# Altium integrated library Microchip Power Management Battery Management.IntLib: 217 symbols (part 4 of 5)
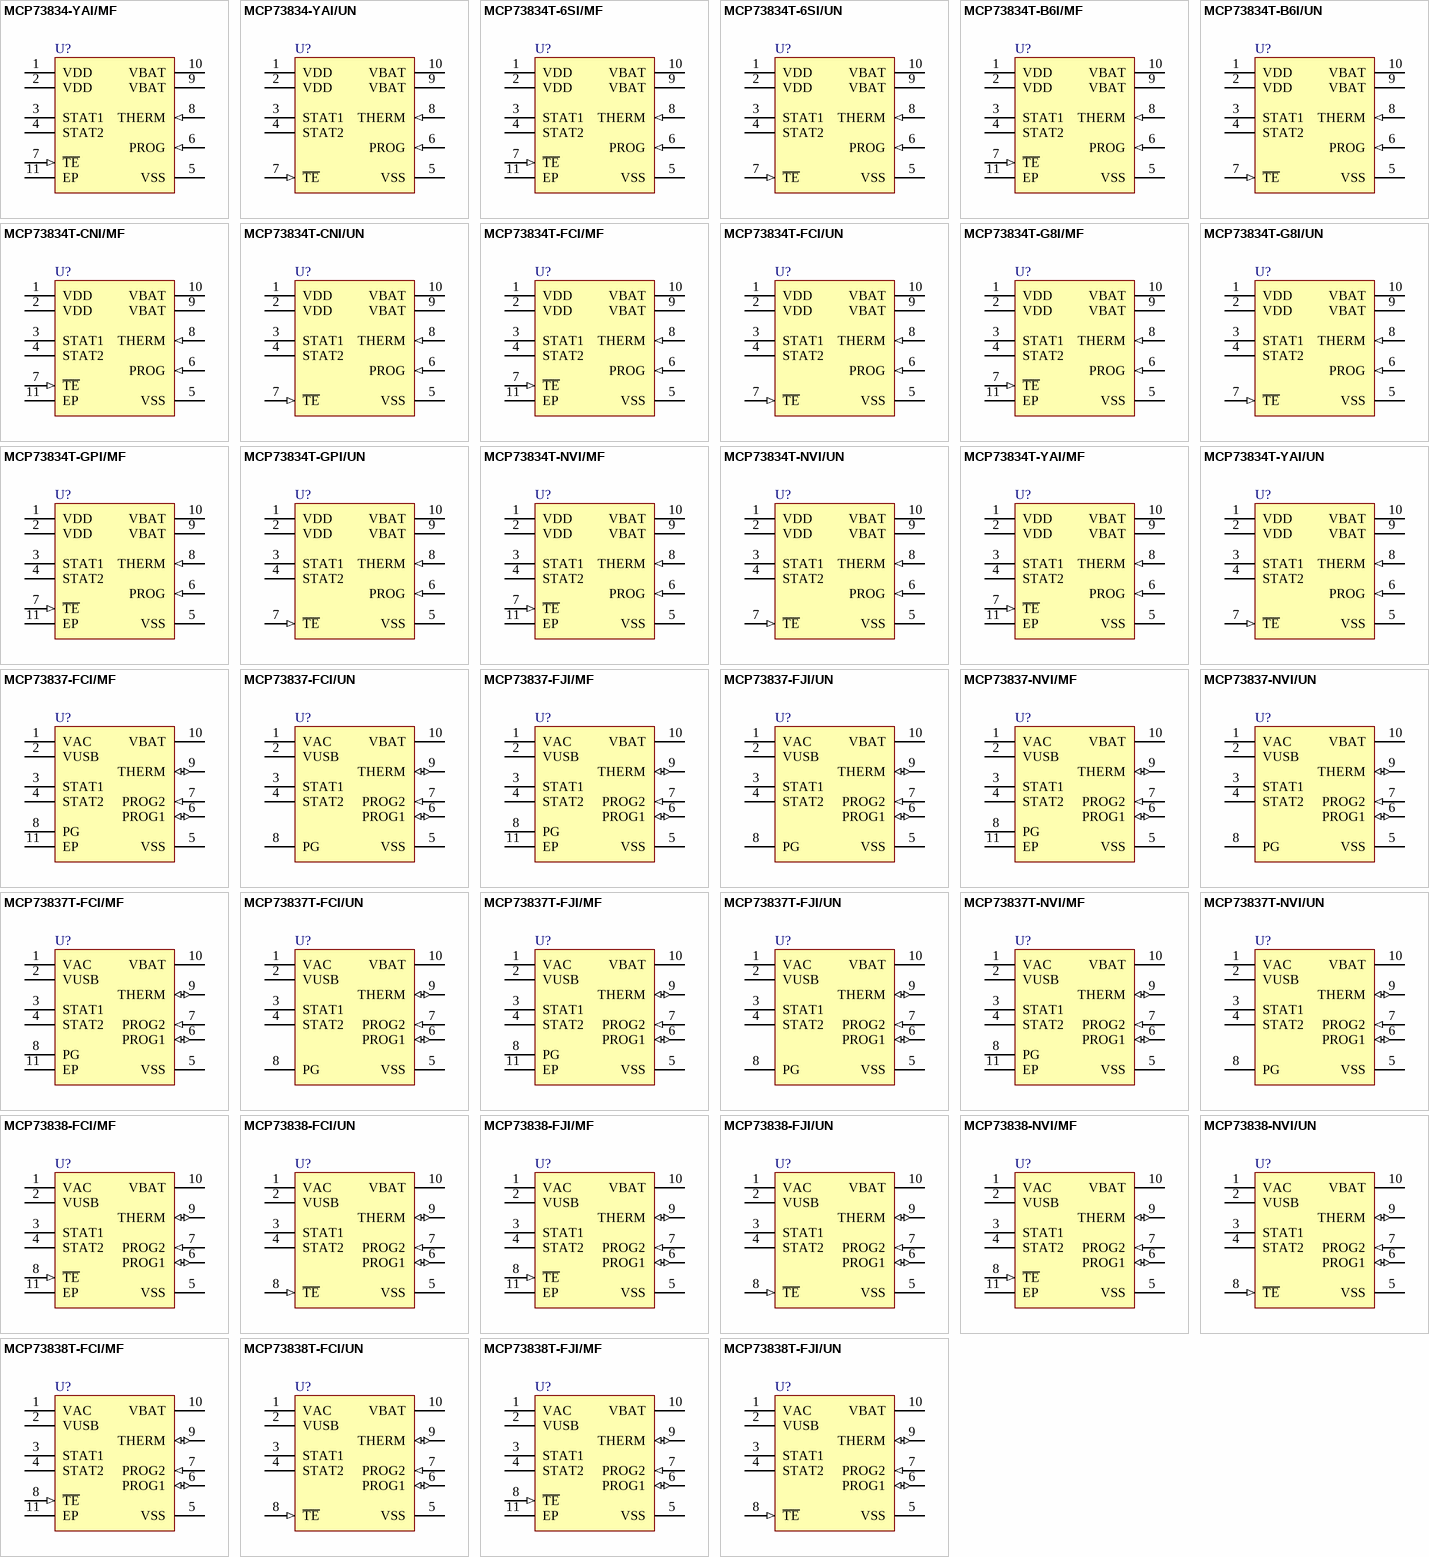
[diagram p9: symbols MCP73834-YAI/MF to MCP73838T-FJI/UN]

## MCP73837T-FCI/MF
designator U?
Stand-Alone Li-Ion/Li-Polymer Battery Charge Management Controller with Autonomous AC-Adapter or USB-Port Source Selection, 4.2V, 10-Pin DFN, Industrial Temperature, Tape and Reel; DatasheetVersion: revA, Nov-2007; PackageVersion: revBB, Aug-2009; PackageReference: DFN-MF10; PackageDescription: 10-Lead Plastic Dual Flat, No Lead Package (MF) - 3x3x0.9mm Body [DFN]; ComponentLink1Description: Manufacturer URL; ComponentLink1URL: http://www.microchip.com/; ComponentLink2Description: Datasheet; ComponentLink2URL: http://ww1.microchip.com/downloads/en/DeviceDoc/22071a.pdf; ComponentLink3Description: Package Specification; ComponentLink3URL: http://www.microchip.com/stellent/groups/techpub_sg/documents/packagingspec/en012702.pdf
footprint DFN-MF10 (SON, 10-Leads, Body 3x3mm, Pitch 0.5mm, Microchip Recommended)
pins: 1 VAC (power), 2 VUSB (power), 3 STAT1 (oc), 4 STAT2 (oc), 5 VSS (power), 6 PROG1 (io), 7 PROG2 (in), 8 PG (oc), 9 THERM (io), 10 VBAT (power), 11 EP (power)

## MCP73837T-FCI/UN
designator U?
Stand-Alone Li-Ion/Li-Polymer Battery Charge Management Controller with Autonomous AC-Adapter or USB-Port Source Selection, 4.2V, 10-Pin MSOP, Industrial Temperature, Tape and Reel; DatasheetVersion: revA, Nov-2007; PackageVersion: revBB, Aug-2009; PackageReference: MSOP-UN10; PackageDescription: 10-Lead Plastic Micro Small Outline Package (UN) [MSOP]; ComponentLink1Description: Manufacturer URL; ComponentLink1URL: http://www.microchip.com/; ComponentLink2Description: Datasheet; ComponentLink2URL: http://ww1.microchip.com/downloads/en/DeviceDoc/22071a.pdf; ComponentLink3Description: Package Specification; ComponentLink3URL: http://www.microchip.com/stellent/groups/techpub_sg/documents/packagingspec/en012702.pdf
footprint MSOP-UN10_N (TSSOP, 10-Leads, Body 3x3mm, Pitch 0.5mm, IPC Medium Density)
footprint MSOP-UN10_L (TSSOP, 10-Leads, Body 3x3mm, Pitch 0.5mm, IPC High Density)
footprint MSOP-UN10_M (TSSOP, 10-Leads, Body 3x3mm, Pitch 0.5mm, IPC Low Density)
pins: 1 VAC (power), 2 VUSB (power), 3 STAT1 (oc), 4 STAT2 (oc), 5 VSS (power), 6 PROG1 (io), 7 PROG2 (in), 8 PG (oc), 9 THERM (io), 10 VBAT (power)

## MCP73837T-FJI/MF
designator U?
Stand-Alone Li-Ion/Li-Polymer Battery Charge Management Controller with Autonomous AC-Adapter or USB-Port Source Selection, 10-Pin DFN, Industrial Temperature, Tape and Reel; DatasheetVersion: revA, Nov-2007; PackageVersion: revBB, Aug-2009; PackageReference: DFN-MF10; PackageDescription: 10-Lead Plastic Dual Flat, No Lead Package (MF) - 3x3x0.9mm Body [DFN]; ComponentLink1Description: Manufacturer URL; ComponentLink1URL: http://www.microchip.com/; ComponentLink2Description: Datasheet; ComponentLink2URL: http://ww1.microchip.com/downloads/en/DeviceDoc/22071a.pdf; ComponentLink3Description: Package Specification; ComponentLink3URL: http://www.microchip.com/stellent/groups/techpub_sg/documents/packagingspec/en012702.pdf
footprint DFN-MF10 (SON, 10-Leads, Body 3x3mm, Pitch 0.5mm, Microchip Recommended)
pins: 1 VAC (power), 2 VUSB (power), 3 STAT1 (oc), 4 STAT2 (oc), 5 VSS (power), 6 PROG1 (io), 7 PROG2 (in), 8 PG (oc), 9 THERM (io), 10 VBAT (power), 11 EP (power)

## MCP73837T-FJI/UN
designator U?
Stand-Alone Li-Ion/Li-Polymer Battery Charge Management Controller with Autonomous AC-Adapter or USB-Port Source Selection, 10-Pin MSOP, Industrial Temperature, Tape and Reel; DatasheetVersion: revA, Nov-2007; PackageVersion: revBB, Aug-2009; PackageReference: MSOP-UN10; PackageDescription: 10-Lead Plastic Micro Small Outline Package (UN) [MSOP]; ComponentLink1Description: Manufacturer URL; ComponentLink1URL: http://www.microchip.com/; ComponentLink2Description: Datasheet; ComponentLink2URL: http://ww1.microchip.com/downloads/en/DeviceDoc/22071a.pdf; ComponentLink3Description: Package Specification; ComponentLink3URL: http://www.microchip.com/stellent/groups/techpub_sg/documents/packagingspec/en012702.pdf
footprint MSOP-UN10_N (TSSOP, 10-Leads, Body 3x3mm, Pitch 0.5mm, IPC Medium Density)
footprint MSOP-UN10_L (TSSOP, 10-Leads, Body 3x3mm, Pitch 0.5mm, IPC High Density)
footprint MSOP-UN10_M (TSSOP, 10-Leads, Body 3x3mm, Pitch 0.5mm, IPC Low Density)
pins: 1 VAC (power), 2 VUSB (power), 3 STAT1 (oc), 4 STAT2 (oc), 5 VSS (power), 6 PROG1 (io), 7 PROG2 (in), 8 PG (oc), 9 THERM (io), 10 VBAT (power)

## MCP73837T-NVI/MF
designator U?
Stand-Alone Li-Ion/Li-Polymer Battery Charge Management Controller with Autonomous AC-Adapter or USB-Port Source Selection, 4.35V, 10-Pin DFN, Industrial Temperature, Tape and Reel; DatasheetVersion: revA, Nov-2007; PackageVersion: revBB, Aug-2009; PackageReference: DFN-MF10; PackageDescription: 10-Lead Plastic Dual Flat, No Lead Package (MF) - 3x3x0.9mm Body [DFN]; ComponentLink1Description: Manufacturer URL; ComponentLink1URL: http://www.microchip.com/; ComponentLink2Description: Datasheet; ComponentLink2URL: http://ww1.microchip.com/downloads/en/DeviceDoc/22071a.pdf; ComponentLink3Description: Package Specification; ComponentLink3URL: http://www.microchip.com/stellent/groups/techpub_sg/documents/packagingspec/en012702.pdf
footprint DFN-MF10 (SON, 10-Leads, Body 3x3mm, Pitch 0.5mm, Microchip Recommended)
pins: 1 VAC (power), 2 VUSB (power), 3 STAT1 (oc), 4 STAT2 (oc), 5 VSS (power), 6 PROG1 (io), 7 PROG2 (in), 8 PG (oc), 9 THERM (io), 10 VBAT (power), 11 EP (power)

## MCP73837T-NVI/UN
designator U?
Stand-Alone Li-Ion/Li-Polymer Battery Charge Management Controller with Autonomous AC-Adapter or USB-Port Source Selection, 4.35V, 10-Pin MSOP, Industrial Temperature, Tape and Reel; DatasheetVersion: revA, Nov-2007; PackageVersion: revBB, Aug-2009; PackageReference: MSOP-UN10; PackageDescription: 10-Lead Plastic Micro Small Outline Package (UN) [MSOP]; ComponentLink1Description: Manufacturer URL; ComponentLink1URL: http://www.microchip.com/; ComponentLink2Description: Datasheet; ComponentLink2URL: http://ww1.microchip.com/downloads/en/DeviceDoc/22071a.pdf; ComponentLink3Description: Package Specification; ComponentLink3URL: http://www.microchip.com/stellent/groups/techpub_sg/documents/packagingspec/en012702.pdf
footprint MSOP-UN10_N (TSSOP, 10-Leads, Body 3x3mm, Pitch 0.5mm, IPC Medium Density)
footprint MSOP-UN10_L (TSSOP, 10-Leads, Body 3x3mm, Pitch 0.5mm, IPC High Density)
footprint MSOP-UN10_M (TSSOP, 10-Leads, Body 3x3mm, Pitch 0.5mm, IPC Low Density)
pins: 1 VAC (power), 2 VUSB (power), 3 STAT1 (oc), 4 STAT2 (oc), 5 VSS (power), 6 PROG1 (io), 7 PROG2 (in), 8 PG (oc), 9 THERM (io), 10 VBAT (power)

## MCP73838-FCI/MF
designator U?
Stand-Alone Li-Ion/Li-Polymer Battery Charge Management Controller with Autonomous AC-Adapter or USB-Port Source Selection, 4.2V, 10-Pin DFN, Industrial Temperature; DatasheetVersion: revA, Nov-2007; PackageVersion: revBB, Aug-2009; PackageReference: DFN-MF10; PackageDescription: 10-Lead Plastic Dual Flat, No Lead Package (MF) - 3x3x0.9mm Body [DFN]; ComponentLink1Description: Manufacturer URL; ComponentLink1URL: http://www.microchip.com/; ComponentLink2Description: Datasheet; ComponentLink2URL: http://ww1.microchip.com/downloads/en/DeviceDoc/22071a.pdf; ComponentLink3Description: Package Specification; ComponentLink3URL: http://www.microchip.com/stellent/groups/techpub_sg/documents/packagingspec/en012702.pdf
footprint DFN-MF10 (SON, 10-Leads, Body 3x3mm, Pitch 0.5mm, Microchip Recommended)
pins: 1 VAC (power), 2 VUSB (power), 3 STAT1 (oc), 4 STAT2 (oc), 5 VSS (power), 6 PROG1 (io), 7 PROG2 (in), 8 ~{TE} (in), 9 THERM (io), 10 VBAT (power), 11 EP (power)

## MCP73838-FCI/UN
designator U?
Stand-Alone Li-Ion/Li-Polymer Battery Charge Management Controller with Autonomous AC-Adapter or USB-Port Source Selection, 4.2V, 10-Pin MSOP, Industrial Temperature; DatasheetVersion: revA, Nov-2007; PackageVersion: revBB, Aug-2009; PackageReference: MSOP-UN10; PackageDescription: 10-Lead Plastic Micro Small Outline Package (UN) [MSOP]; ComponentLink1Description: Manufacturer URL; ComponentLink1URL: http://www.microchip.com/; ComponentLink2Description: Datasheet; ComponentLink2URL: http://ww1.microchip.com/downloads/en/DeviceDoc/22071a.pdf; ComponentLink3Description: Package Specification; ComponentLink3URL: http://www.microchip.com/stellent/groups/techpub_sg/documents/packagingspec/en012702.pdf
footprint MSOP-UN10_N (TSSOP, 10-Leads, Body 3x3mm, Pitch 0.5mm, IPC Medium Density)
footprint MSOP-UN10_L (TSSOP, 10-Leads, Body 3x3mm, Pitch 0.5mm, IPC High Density)
footprint MSOP-UN10_M (TSSOP, 10-Leads, Body 3x3mm, Pitch 0.5mm, IPC Low Density)
pins: 1 VAC (power), 2 VUSB (power), 3 STAT1 (oc), 4 STAT2 (oc), 5 VSS (power), 6 PROG1 (io), 7 PROG2 (in), 8 ~{TE} (in), 9 THERM (io), 10 VBAT (power)

## MCP73838-FJI/MF
designator U?
Stand-Alone Li-Ion/Li-Polymer Battery Charge Management Controller with Autonomous AC-Adapter or USB-Port Source Selection, 10-Pin DFN, Industrial Temperature; DatasheetVersion: revA, Nov-2007; PackageVersion: revBB, Aug-2009; PackageReference: DFN-MF10; PackageDescription: 10-Lead Plastic Dual Flat, No Lead Package (MF) - 3x3x0.9mm Body [DFN]; ComponentLink1Description: Manufacturer URL; ComponentLink1URL: http://www.microchip.com/; ComponentLink2Description: Datasheet; ComponentLink2URL: http://ww1.microchip.com/downloads/en/DeviceDoc/22071a.pdf; ComponentLink3Description: Package Specification; ComponentLink3URL: http://www.microchip.com/stellent/groups/techpub_sg/documents/packagingspec/en012702.pdf
footprint DFN-MF10 (SON, 10-Leads, Body 3x3mm, Pitch 0.5mm, Microchip Recommended)
pins: 1 VAC (power), 2 VUSB (power), 3 STAT1 (oc), 4 STAT2 (oc), 5 VSS (power), 6 PROG1 (io), 7 PROG2 (in), 8 ~{TE} (in), 9 THERM (io), 10 VBAT (power), 11 EP (power)

## MCP73838-FJI/UN
designator U?
Stand-Alone Li-Ion/Li-Polymer Battery Charge Management Controller with Autonomous AC-Adapter or USB-Port Source Selection, 10-Pin MSOP, Industrial Temperature; DatasheetVersion: revA, Nov-2007; PackageVersion: revBB, Aug-2009; PackageReference: MSOP-UN10; PackageDescription: 10-Lead Plastic Micro Small Outline Package (UN) [MSOP]; ComponentLink1Description: Manufacturer URL; ComponentLink1URL: http://www.microchip.com/; ComponentLink2Description: Datasheet; ComponentLink2URL: http://ww1.microchip.com/downloads/en/DeviceDoc/22071a.pdf; ComponentLink3Description: Package Specification; ComponentLink3URL: http://www.microchip.com/stellent/groups/techpub_sg/documents/packagingspec/en012702.pdf
footprint MSOP-UN10_N (TSSOP, 10-Leads, Body 3x3mm, Pitch 0.5mm, IPC Medium Density)
footprint MSOP-UN10_L (TSSOP, 10-Leads, Body 3x3mm, Pitch 0.5mm, IPC High Density)
footprint MSOP-UN10_M (TSSOP, 10-Leads, Body 3x3mm, Pitch 0.5mm, IPC Low Density)
pins: 1 VAC (power), 2 VUSB (power), 3 STAT1 (oc), 4 STAT2 (oc), 5 VSS (power), 6 PROG1 (io), 7 PROG2 (in), 8 ~{TE} (in), 9 THERM (io), 10 VBAT (power)

## MCP73838-NVI/MF
designator U?
Stand-Alone Li-Ion/Li-Polymer Battery Charge Management Controller with Autonomous AC-Adapter or USB-Port Source Selection, 4.35V, 10-Pin DFN, Industrial Temperature; DatasheetVersion: revA, Nov-2007; PackageVersion: revBB, Aug-2009; PackageReference: DFN-MF10; PackageDescription: 10-Lead Plastic Dual Flat, No Lead Package (MF) - 3x3x0.9mm Body [DFN]; ComponentLink1Description: Manufacturer URL; ComponentLink1URL: http://www.microchip.com/; ComponentLink2Description: Datasheet; ComponentLink2URL: http://ww1.microchip.com/downloads/en/DeviceDoc/22071a.pdf; ComponentLink3Description: Package Specification; ComponentLink3URL: http://www.microchip.com/stellent/groups/techpub_sg/documents/packagingspec/en012702.pdf
footprint DFN-MF10 (SON, 10-Leads, Body 3x3mm, Pitch 0.5mm, Microchip Recommended)
pins: 1 VAC (power), 2 VUSB (power), 3 STAT1 (oc), 4 STAT2 (oc), 5 VSS (power), 6 PROG1 (io), 7 PROG2 (in), 8 ~{TE} (in), 9 THERM (io), 10 VBAT (power), 11 EP (power)

## MCP73838-NVI/UN
designator U?
Stand-Alone Li-Ion/Li-Polymer Battery Charge Management Controller with Autonomous AC-Adapter or USB-Port Source Selection, 4.35V, 10-Pin MSOP, Industrial Temperature; DatasheetVersion: revA, Nov-2007; PackageVersion: revBB, Aug-2009; PackageReference: MSOP-UN10; PackageDescription: 10-Lead Plastic Micro Small Outline Package (UN) [MSOP]; ComponentLink1Description: Manufacturer URL; ComponentLink1URL: http://www.microchip.com/; ComponentLink2Description: Datasheet; ComponentLink2URL: http://ww1.microchip.com/downloads/en/DeviceDoc/22071a.pdf; ComponentLink3Description: Package Specification; ComponentLink3URL: http://www.microchip.com/stellent/groups/techpub_sg/documents/packagingspec/en012702.pdf
footprint MSOP-UN10_N (TSSOP, 10-Leads, Body 3x3mm, Pitch 0.5mm, IPC Medium Density)
footprint MSOP-UN10_L (TSSOP, 10-Leads, Body 3x3mm, Pitch 0.5mm, IPC High Density)
footprint MSOP-UN10_M (TSSOP, 10-Leads, Body 3x3mm, Pitch 0.5mm, IPC Low Density)
pins: 1 VAC (power), 2 VUSB (power), 3 STAT1 (oc), 4 STAT2 (oc), 5 VSS (power), 6 PROG1 (io), 7 PROG2 (in), 8 ~{TE} (in), 9 THERM (io), 10 VBAT (power)

## MCP73838T-FCI/MF
designator U?
Stand-Alone Li-Ion/Li-Polymer Battery Charge Management Controller with Autonomous AC-Adapter or USB-Port Source Selection, 4.2V, 10-Pin DFN, Industrial Temperature, Tape and Reel; DatasheetVersion: revA, Nov-2007; PackageVersion: revBB, Aug-2009; PackageReference: DFN-MF10; PackageDescription: 10-Lead Plastic Dual Flat, No Lead Package (MF) - 3x3x0.9mm Body [DFN]; ComponentLink1Description: Manufacturer URL; ComponentLink1URL: http://www.microchip.com/; ComponentLink2Description: Datasheet; ComponentLink2URL: http://ww1.microchip.com/downloads/en/DeviceDoc/22071a.pdf; ComponentLink3Description: Package Specification; ComponentLink3URL: http://www.microchip.com/stellent/groups/techpub_sg/documents/packagingspec/en012702.pdf
footprint DFN-MF10 (SON, 10-Leads, Body 3x3mm, Pitch 0.5mm, Microchip Recommended)
pins: 1 VAC (power), 2 VUSB (power), 3 STAT1 (oc), 4 STAT2 (oc), 5 VSS (power), 6 PROG1 (io), 7 PROG2 (in), 8 ~{TE} (in), 9 THERM (io), 10 VBAT (power), 11 EP (power)

## MCP73838T-FCI/UN
designator U?
Stand-Alone Li-Ion/Li-Polymer Battery Charge Management Controller with Autonomous AC-Adapter or USB-Port Source Selection, 4.2V, 10-Pin MSOP, Industrial Temperature, Tape and Reel; DatasheetVersion: revA, Nov-2007; PackageVersion: revBB, Aug-2009; PackageReference: MSOP-UN10; PackageDescription: 10-Lead Plastic Micro Small Outline Package (UN) [MSOP]; ComponentLink1Description: Manufacturer URL; ComponentLink1URL: http://www.microchip.com/; ComponentLink2Description: Datasheet; ComponentLink2URL: http://ww1.microchip.com/downloads/en/DeviceDoc/22071a.pdf; ComponentLink3Description: Package Specification; ComponentLink3URL: http://www.microchip.com/stellent/groups/techpub_sg/documents/packagingspec/en012702.pdf
footprint MSOP-UN10_N (TSSOP, 10-Leads, Body 3x3mm, Pitch 0.5mm, IPC Medium Density)
footprint MSOP-UN10_L (TSSOP, 10-Leads, Body 3x3mm, Pitch 0.5mm, IPC High Density)
footprint MSOP-UN10_M (TSSOP, 10-Leads, Body 3x3mm, Pitch 0.5mm, IPC Low Density)
pins: 1 VAC (power), 2 VUSB (power), 3 STAT1 (oc), 4 STAT2 (oc), 5 VSS (power), 6 PROG1 (io), 7 PROG2 (in), 8 ~{TE} (in), 9 THERM (io), 10 VBAT (power)

## MCP73838T-FJI/MF
designator U?
Stand-Alone Li-Ion/Li-Polymer Battery Charge Management Controller with Autonomous AC-Adapter or USB-Port Source Selection, 10-Pin DFN, Industrial Temperature, Tape and Reel; DatasheetVersion: revA, Nov-2007; PackageVersion: revBB, Aug-2009; PackageReference: DFN-MF10; PackageDescription: 10-Lead Plastic Dual Flat, No Lead Package (MF) - 3x3x0.9mm Body [DFN]; ComponentLink1Description: Manufacturer URL; ComponentLink1URL: http://www.microchip.com/; ComponentLink2Description: Datasheet; ComponentLink2URL: http://ww1.microchip.com/downloads/en/DeviceDoc/22071a.pdf; ComponentLink3Description: Package Specification; ComponentLink3URL: http://www.microchip.com/stellent/groups/techpub_sg/documents/packagingspec/en012702.pdf
footprint DFN-MF10 (SON, 10-Leads, Body 3x3mm, Pitch 0.5mm, Microchip Recommended)
pins: 1 VAC (power), 2 VUSB (power), 3 STAT1 (oc), 4 STAT2 (oc), 5 VSS (power), 6 PROG1 (io), 7 PROG2 (in), 8 ~{TE} (in), 9 THERM (io), 10 VBAT (power), 11 EP (power)

## MCP73838T-FJI/UN
designator U?
Stand-Alone Li-Ion/Li-Polymer Battery Charge Management Controller with Autonomous AC-Adapter or USB-Port Source Selection, 10-Pin MSOP, Industrial Temperature, Tape and Reel; DatasheetVersion: revA, Nov-2007; PackageVersion: revBB, Aug-2009; PackageReference: MSOP-UN10; PackageDescription: 10-Lead Plastic Micro Small Outline Package (UN) [MSOP]; ComponentLink1Description: Manufacturer URL; ComponentLink1URL: http://www.microchip.com/; ComponentLink2Description: Datasheet; ComponentLink2URL: http://ww1.microchip.com/downloads/en/DeviceDoc/22071a.pdf; ComponentLink3Description: Package Specification; ComponentLink3URL: http://www.microchip.com/stellent/groups/techpub_sg/documents/packagingspec/en012702.pdf
footprint MSOP-UN10_N (TSSOP, 10-Leads, Body 3x3mm, Pitch 0.5mm, IPC Medium Density)
footprint MSOP-UN10_L (TSSOP, 10-Leads, Body 3x3mm, Pitch 0.5mm, IPC High Density)
footprint MSOP-UN10_M (TSSOP, 10-Leads, Body 3x3mm, Pitch 0.5mm, IPC Low Density)
pins: 1 VAC (power), 2 VUSB (power), 3 STAT1 (oc), 4 STAT2 (oc), 5 VSS (power), 6 PROG1 (io), 7 PROG2 (in), 8 ~{TE} (in), 9 THERM (io), 10 VBAT (power)

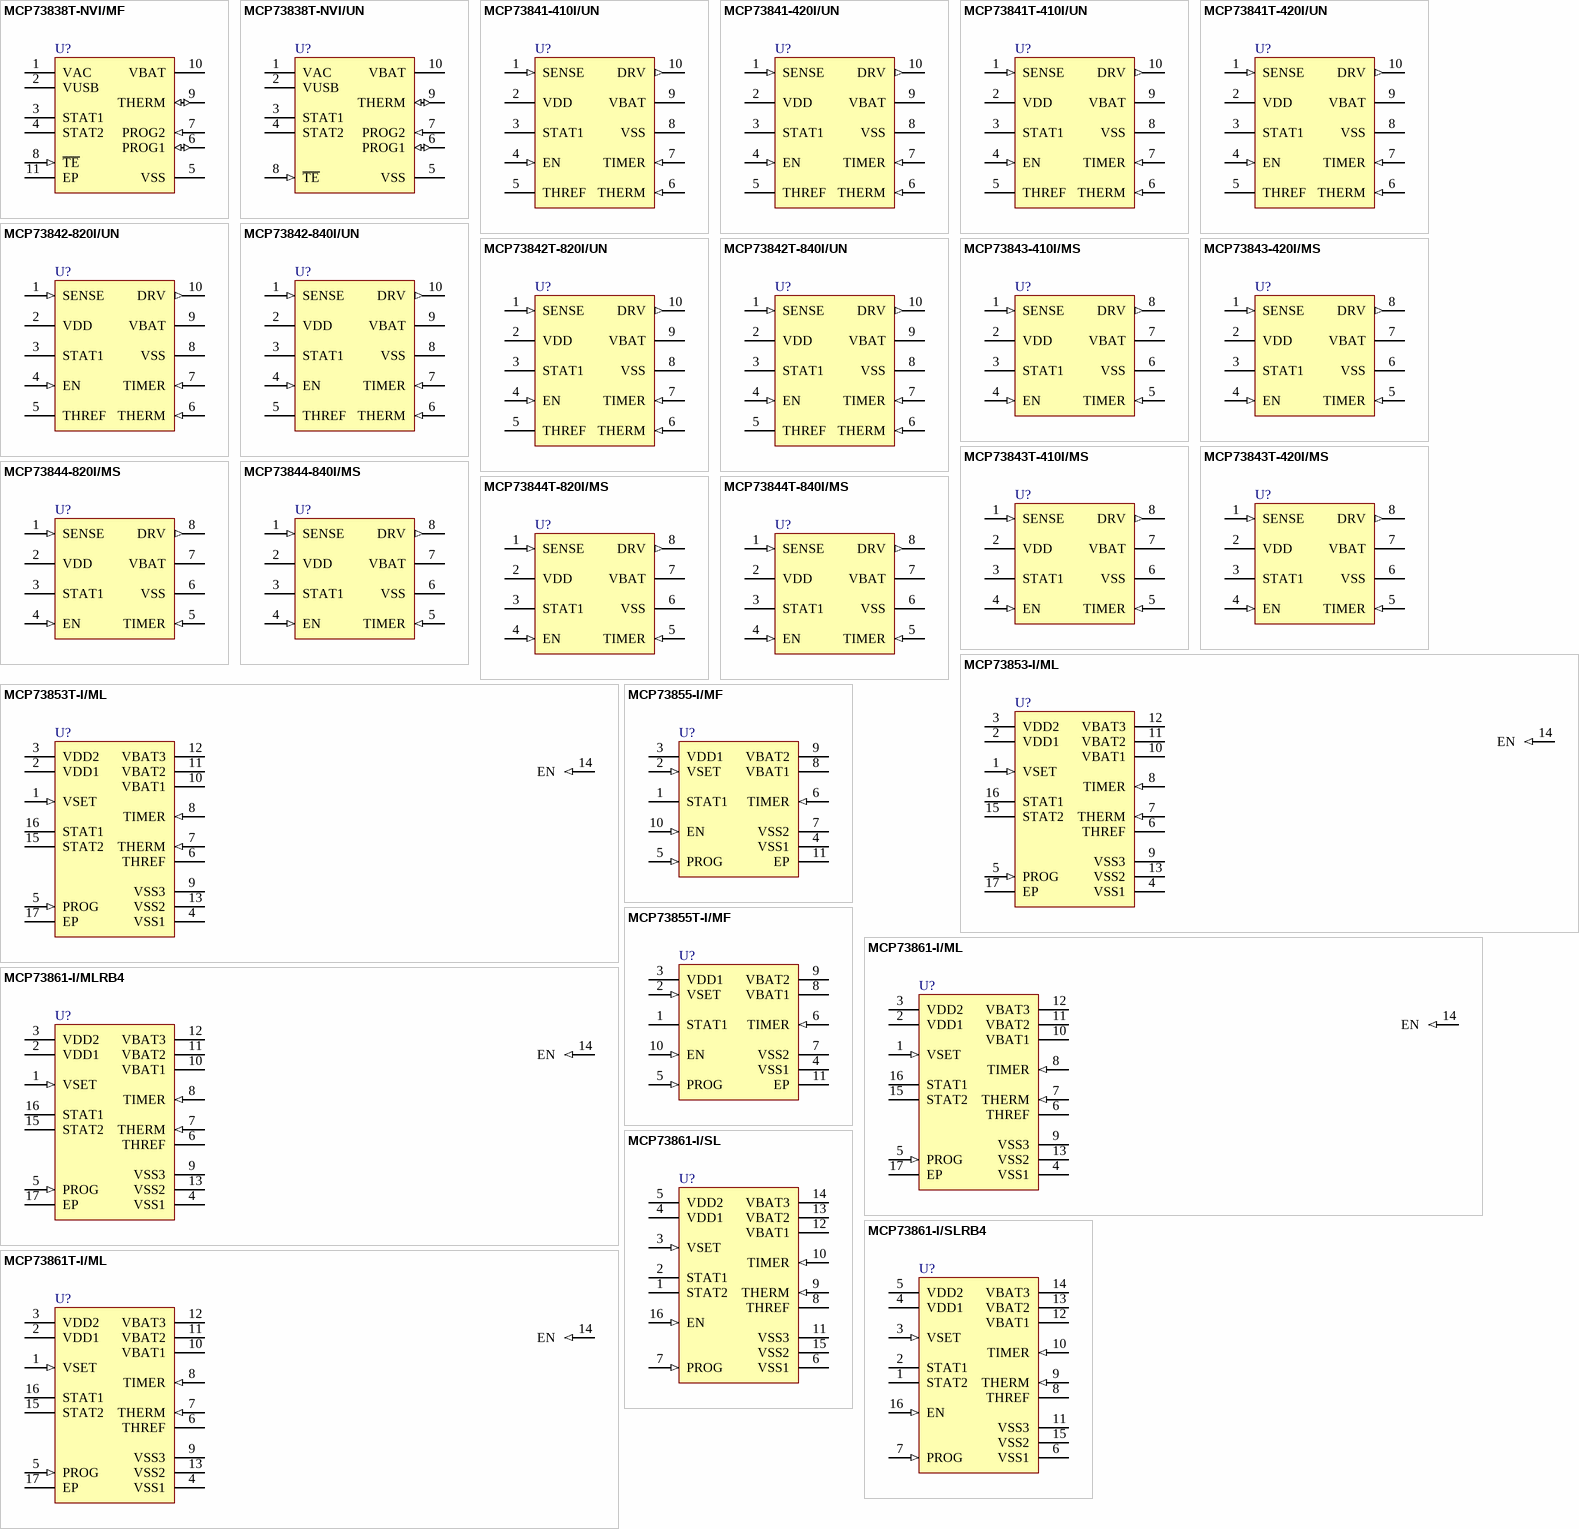
[diagram p4: symbols MCP73838T-NVI/MF to MCP73861T-I/ML]

## MCP73838T-NVI/MF
designator U?
Stand-Alone Li-Ion/Li-Polymer Battery Charge Management Controller with Autonomous AC-Adapter or USB-Port Source Selection, 4.35V, 10-Pin DFN, Industrial Temperature, Tape and Reel; DatasheetVersion: revA, Nov-2007; PackageVersion: revBB, Aug-2009; PackageReference: DFN-MF10; PackageDescription: 10-Lead Plastic Dual Flat, No Lead Package (MF) - 3x3x0.9mm Body [DFN]; ComponentLink1Description: Manufacturer URL; ComponentLink1URL: http://www.microchip.com/; ComponentLink2Description: Datasheet; ComponentLink2URL: http://ww1.microchip.com/downloads/en/DeviceDoc/22071a.pdf; ComponentLink3Description: Package Specification; ComponentLink3URL: http://www.microchip.com/stellent/groups/techpub_sg/documents/packagingspec/en012702.pdf
footprint DFN-MF10 (SON, 10-Leads, Body 3x3mm, Pitch 0.5mm, Microchip Recommended)
pins: 1 VAC (power), 2 VUSB (power), 3 STAT1 (oc), 4 STAT2 (oc), 5 VSS (power), 6 PROG1 (io), 7 PROG2 (in), 8 ~{TE} (in), 9 THERM (io), 10 VBAT (power), 11 EP (power)

## MCP73838T-NVI/UN
designator U?
Stand-Alone Li-Ion/Li-Polymer Battery Charge Management Controller with Autonomous AC-Adapter or USB-Port Source Selection, 4.35V, 10-Pin MSOP, Industrial Temperature, Tape and Reel; DatasheetVersion: revA, Nov-2007; PackageVersion: revBB, Aug-2009; PackageReference: MSOP-UN10; PackageDescription: 10-Lead Plastic Micro Small Outline Package (UN) [MSOP]; ComponentLink1Description: Manufacturer URL; ComponentLink1URL: http://www.microchip.com/; ComponentLink2Description: Datasheet; ComponentLink2URL: http://ww1.microchip.com/downloads/en/DeviceDoc/22071a.pdf; ComponentLink3Description: Package Specification; ComponentLink3URL: http://www.microchip.com/stellent/groups/techpub_sg/documents/packagingspec/en012702.pdf
footprint MSOP-UN10_N (TSSOP, 10-Leads, Body 3x3mm, Pitch 0.5mm, IPC Medium Density)
footprint MSOP-UN10_L (TSSOP, 10-Leads, Body 3x3mm, Pitch 0.5mm, IPC High Density)
footprint MSOP-UN10_M (TSSOP, 10-Leads, Body 3x3mm, Pitch 0.5mm, IPC Low Density)
pins: 1 VAC (power), 2 VUSB (power), 3 STAT1 (oc), 4 STAT2 (oc), 5 VSS (power), 6 PROG1 (io), 7 PROG2 (in), 8 ~{TE} (in), 9 THERM (io), 10 VBAT (power)

## MCP73841-410I/UN
designator U?
Single-Cell Li-Ion/Li-Polymer Charge Management Controller with Temperature Monitor, 4.1V, 10-Pin MSOP, Industrial Temperature; DatasheetVersion: revC, Sep-2004; PackageVersion: revBB, Aug-2009; PackageReference: MSOP-UN10; PackageDescription: 10-Lead Plastic Micro Small Outline Package (UN) [MSOP]; ComponentLink1Description: Manufacturer URL; ComponentLink1URL: http://www.microchip.com/; ComponentLink2Description: Datasheet; ComponentLink2URL: http://ww1.microchip.com/downloads/en/DeviceDoc/21823c.pdf; ComponentLink3Description: Package Specification; ComponentLink3URL: http://www.microchip.com/stellent/groups/techpub_sg/documents/packagingspec/en012702.pdf
footprint MSOP-UN10_N (TSSOP, 10-Leads, Body 3x3mm, Pitch 0.5mm, IPC Medium Density)
footprint MSOP-UN10_L (TSSOP, 10-Leads, Body 3x3mm, Pitch 0.5mm, IPC High Density)
footprint MSOP-UN10_M (TSSOP, 10-Leads, Body 3x3mm, Pitch 0.5mm, IPC Low Density)
pins: 1 SENSE (in), 2 VDD (power), 3 STAT1 (oc), 4 EN (in), 5 THREF (power), 6 THERM (in), 7 TIMER (in), 8 VSS (power), 9 VBAT (power), 10 DRV (out)

## MCP73841-420I/UN
designator U?
Single-Cell Li-Ion/Li-Polymer Charge Management Controller with Temperature Monitor, 4.2V, 10-Pin MSOP, Industrial Temperature; DatasheetVersion: revC, Sep-2004; PackageVersion: revBB, Aug-2009; PackageReference: MSOP-UN10; PackageDescription: 10-Lead Plastic Micro Small Outline Package (UN) [MSOP]; ComponentLink1Description: Manufacturer URL; ComponentLink1URL: http://www.microchip.com/; ComponentLink2Description: Datasheet; ComponentLink2URL: http://ww1.microchip.com/downloads/en/DeviceDoc/21823c.pdf; ComponentLink3Description: Package Specification; ComponentLink3URL: http://www.microchip.com/stellent/groups/techpub_sg/documents/packagingspec/en012702.pdf
footprint MSOP-UN10_N (TSSOP, 10-Leads, Body 3x3mm, Pitch 0.5mm, IPC Medium Density)
footprint MSOP-UN10_L (TSSOP, 10-Leads, Body 3x3mm, Pitch 0.5mm, IPC High Density)
footprint MSOP-UN10_M (TSSOP, 10-Leads, Body 3x3mm, Pitch 0.5mm, IPC Low Density)
pins: 1 SENSE (in), 2 VDD (power), 3 STAT1 (oc), 4 EN (in), 5 THREF (power), 6 THERM (in), 7 TIMER (in), 8 VSS (power), 9 VBAT (power), 10 DRV (out)

## MCP73841T-410I/UN
designator U?
Single-Cell Li-Ion/Li-Polymer Charge Management Controller with Temperature Monitor, 4.1V, 10-Pin MSOP, Industrial Temperature, Tape and Reel; DatasheetVersion: revC, Sep-2004; PackageVersion: revBB, Aug-2009; PackageReference: MSOP-UN10; PackageDescription: 10-Lead Plastic Micro Small Outline Package (UN) [MSOP]; ComponentLink1Description: Manufacturer URL; ComponentLink1URL: http://www.microchip.com/; ComponentLink2Description: Datasheet; ComponentLink2URL: http://ww1.microchip.com/downloads/en/DeviceDoc/21823c.pdf; ComponentLink3Description: Package Specification; ComponentLink3URL: http://www.microchip.com/stellent/groups/techpub_sg/documents/packagingspec/en012702.pdf
footprint MSOP-UN10_N (TSSOP, 10-Leads, Body 3x3mm, Pitch 0.5mm, IPC Medium Density)
footprint MSOP-UN10_L (TSSOP, 10-Leads, Body 3x3mm, Pitch 0.5mm, IPC High Density)
footprint MSOP-UN10_M (TSSOP, 10-Leads, Body 3x3mm, Pitch 0.5mm, IPC Low Density)
pins: 1 SENSE (in), 2 VDD (power), 3 STAT1 (oc), 4 EN (in), 5 THREF (power), 6 THERM (in), 7 TIMER (in), 8 VSS (power), 9 VBAT (power), 10 DRV (out)

## MCP73841T-420I/UN
designator U?
Single-Cell Li-Ion/Li-Polymer Charge Management Controller with Temperature Monitor, 4.2V, 10-Pin MSOP, Industrial Temperature, Tape and Reel; DatasheetVersion: revC, Sep-2004; PackageVersion: revBB, Aug-2009; PackageReference: MSOP-UN10; PackageDescription: 10-Lead Plastic Micro Small Outline Package (UN) [MSOP]; ComponentLink1Description: Manufacturer URL; ComponentLink1URL: http://www.microchip.com/; ComponentLink2Description: Datasheet; ComponentLink2URL: http://ww1.microchip.com/downloads/en/DeviceDoc/21823c.pdf; ComponentLink3Description: Package Specification; ComponentLink3URL: http://www.microchip.com/stellent/groups/techpub_sg/documents/packagingspec/en012702.pdf
footprint MSOP-UN10_N (TSSOP, 10-Leads, Body 3x3mm, Pitch 0.5mm, IPC Medium Density)
footprint MSOP-UN10_L (TSSOP, 10-Leads, Body 3x3mm, Pitch 0.5mm, IPC High Density)
footprint MSOP-UN10_M (TSSOP, 10-Leads, Body 3x3mm, Pitch 0.5mm, IPC Low Density)
pins: 1 SENSE (in), 2 VDD (power), 3 STAT1 (oc), 4 EN (in), 5 THREF (power), 6 THERM (in), 7 TIMER (in), 8 VSS (power), 9 VBAT (power), 10 DRV (out)

## MCP73842-820I/UN
designator U?
Dual Series cell Li-Ion/Li-Polymer Charge Management Controller with Temperature Monitor, 8.2V, 10-Pin MSOP, Industrial Temperature; DatasheetVersion: revC, Sep-2004; PackageVersion: revBB, Aug-2009; PackageReference: MSOP-UN10; PackageDescription: 10-Lead Plastic Micro Small Outline Package (UN) [MSOP]; ComponentLink1Description: Manufacturer URL; ComponentLink1URL: http://www.microchip.com/; ComponentLink2Description: Datasheet; ComponentLink2URL: http://ww1.microchip.com/downloads/en/DeviceDoc/21823c.pdf; ComponentLink3Description: Package Specification; ComponentLink3URL: http://www.microchip.com/stellent/groups/techpub_sg/documents/packagingspec/en012702.pdf
footprint MSOP-UN10_N (TSSOP, 10-Leads, Body 3x3mm, Pitch 0.5mm, IPC Medium Density)
footprint MSOP-UN10_L (TSSOP, 10-Leads, Body 3x3mm, Pitch 0.5mm, IPC High Density)
footprint MSOP-UN10_M (TSSOP, 10-Leads, Body 3x3mm, Pitch 0.5mm, IPC Low Density)
pins: 1 SENSE (in), 2 VDD (power), 3 STAT1 (oc), 4 EN (in), 5 THREF (power), 6 THERM (in), 7 TIMER (in), 8 VSS (power), 9 VBAT (power), 10 DRV (out)

## MCP73842-840I/UN
designator U?
Dual Series cell Li-Ion/Li-Polymer Charge Management Controller with Temperature Monitor, 8.4V, 10-Pin MSOP, Industrial Temperature; DatasheetVersion: revC, Sep-2004; PackageVersion: revBB, Aug-2009; PackageReference: MSOP-UN10; PackageDescription: 10-Lead Plastic Micro Small Outline Package (UN) [MSOP]; ComponentLink1Description: Manufacturer URL; ComponentLink1URL: http://www.microchip.com/; ComponentLink2Description: Datasheet; ComponentLink2URL: http://ww1.microchip.com/downloads/en/DeviceDoc/21823c.pdf; ComponentLink3Description: Package Specification; ComponentLink3URL: http://www.microchip.com/stellent/groups/techpub_sg/documents/packagingspec/en012702.pdf
footprint MSOP-UN10_N (TSSOP, 10-Leads, Body 3x3mm, Pitch 0.5mm, IPC Medium Density)
footprint MSOP-UN10_L (TSSOP, 10-Leads, Body 3x3mm, Pitch 0.5mm, IPC High Density)
footprint MSOP-UN10_M (TSSOP, 10-Leads, Body 3x3mm, Pitch 0.5mm, IPC Low Density)
pins: 1 SENSE (in), 2 VDD (power), 3 STAT1 (oc), 4 EN (in), 5 THREF (power), 6 THERM (in), 7 TIMER (in), 8 VSS (power), 9 VBAT (power), 10 DRV (out)

## MCP73842T-820I/UN
designator U?
Dual Series cell Li-Ion/Li-Polymer Charge Management Controller with Temperature Monitor, 8.2V, 10-Pin MSOP, Industrial Temperature, Tape and Reel; DatasheetVersion: revC, Sep-2004; PackageVersion: revBB, Aug-2009; PackageReference: MSOP-UN10; PackageDescription: 10-Lead Plastic Micro Small Outline Package (UN) [MSOP]; ComponentLink1Description: Manufacturer URL; ComponentLink1URL: http://www.microchip.com/; ComponentLink2Description: Datasheet; ComponentLink2URL: http://ww1.microchip.com/downloads/en/DeviceDoc/21823c.pdf; ComponentLink3Description: Package Specification; ComponentLink3URL: http://www.microchip.com/stellent/groups/techpub_sg/documents/packagingspec/en012702.pdf
footprint MSOP-UN10_N (TSSOP, 10-Leads, Body 3x3mm, Pitch 0.5mm, IPC Medium Density)
footprint MSOP-UN10_L (TSSOP, 10-Leads, Body 3x3mm, Pitch 0.5mm, IPC High Density)
footprint MSOP-UN10_M (TSSOP, 10-Leads, Body 3x3mm, Pitch 0.5mm, IPC Low Density)
pins: 1 SENSE (in), 2 VDD (power), 3 STAT1 (oc), 4 EN (in), 5 THREF (power), 6 THERM (in), 7 TIMER (in), 8 VSS (power), 9 VBAT (power), 10 DRV (out)

## MCP73842T-840I/UN
designator U?
Dual Series cell Li-Ion/Li-Polymer Charge Management Controller with Temperature Monitor, 8.4V, 10-Pin MSOP, Industrial Temperature, Tape and Reel; DatasheetVersion: revC, Sep-2004; PackageVersion: revBB, Aug-2009; PackageReference: MSOP-UN10; PackageDescription: 10-Lead Plastic Micro Small Outline Package (UN) [MSOP]; ComponentLink1Description: Manufacturer URL; ComponentLink1URL: http://www.microchip.com/; ComponentLink2Description: Datasheet; ComponentLink2URL: http://ww1.microchip.com/downloads/en/DeviceDoc/21823c.pdf; ComponentLink3Description: Package Specification; ComponentLink3URL: http://www.microchip.com/stellent/groups/techpub_sg/documents/packagingspec/en012702.pdf
footprint MSOP-UN10_N (TSSOP, 10-Leads, Body 3x3mm, Pitch 0.5mm, IPC Medium Density)
footprint MSOP-UN10_L (TSSOP, 10-Leads, Body 3x3mm, Pitch 0.5mm, IPC High Density)
footprint MSOP-UN10_M (TSSOP, 10-Leads, Body 3x3mm, Pitch 0.5mm, IPC Low Density)
pins: 1 SENSE (in), 2 VDD (power), 3 STAT1 (oc), 4 EN (in), 5 THREF (power), 6 THERM (in), 7 TIMER (in), 8 VSS (power), 9 VBAT (power), 10 DRV (out)

## MCP73843-410I/MS
designator U?
Single-Cell Li-Ion/Li-Polymer Charge Management Controller, 4.1V, 8-Pin MSOP, Industrial Temperature; DatasheetVersion: revC, Sep-2004; PackageVersion: revBB, Aug-2009; PackageReference: MSOP-MS8; PackageDescription: 8-Lead Plastic Micro Small Outline Package (MS) [MSOP]; ComponentLink1Description: Manufacturer URL; ComponentLink1URL: http://www.microchip.com/; ComponentLink2Description: Datasheet; ComponentLink2URL: http://ww1.microchip.com/downloads/en/DeviceDoc/21823c.pdf; ComponentLink3Description: Package Specification; ComponentLink3URL: http://www.microchip.com/stellent/groups/techpub_sg/documents/packagingspec/en012702.pdf
footprint MSOP-MS8_N (TSOP, 8-Leads, Body 3x3mm, Pitch 0.65mm, IPC Medium Density)
footprint MSOP-MS8_L (TSOP, 8-Leads, Body 3x3mm, Pitch 0.65mm, IPC High Density)
footprint MSOP-MS8_M (TSOP, 8-Leads, Body 3x3mm, Pitch 0.65mm, IPC Low Density)
pins: 1 SENSE (in), 2 VDD (power), 3 STAT1 (oc), 4 EN (in), 5 TIMER (in), 6 VSS (power), 7 VBAT (power), 8 DRV (out)

## MCP73843-420I/MS
designator U?
Single-Cell Li-Ion/Li-Polymer Charge Management Controller, 4.2V, 8-Pin MSOP, Industrial Temperature; DatasheetVersion: revC, Sep-2004; PackageVersion: revBB, Aug-2009; PackageReference: MSOP-MS8; PackageDescription: 8-Lead Plastic Micro Small Outline Package (MS) [MSOP]; ComponentLink1Description: Manufacturer URL; ComponentLink1URL: http://www.microchip.com/; ComponentLink2Description: Datasheet; ComponentLink2URL: http://ww1.microchip.com/downloads/en/DeviceDoc/21823c.pdf; ComponentLink3Description: Package Specification; ComponentLink3URL: http://www.microchip.com/stellent/groups/techpub_sg/documents/packagingspec/en012702.pdf
footprint MSOP-MS8_N (TSOP, 8-Leads, Body 3x3mm, Pitch 0.65mm, IPC Medium Density)
footprint MSOP-MS8_L (TSOP, 8-Leads, Body 3x3mm, Pitch 0.65mm, IPC High Density)
footprint MSOP-MS8_M (TSOP, 8-Leads, Body 3x3mm, Pitch 0.65mm, IPC Low Density)
pins: 1 SENSE (in), 2 VDD (power), 3 STAT1 (oc), 4 EN (in), 5 TIMER (in), 6 VSS (power), 7 VBAT (power), 8 DRV (out)

## MCP73843T-410I/MS
designator U?
Single-Cell Li-Ion/Li-Polymer Charge Management Controller, 4.1V, 8-Pin MSOP, Industrial Temperature, Tape and Reel; DatasheetVersion: revC, Sep-2004; PackageVersion: revBB, Aug-2009; PackageReference: MSOP-MS8; PackageDescription: 8-Lead Plastic Micro Small Outline Package (MS) [MSOP]; ComponentLink1Description: Manufacturer URL; ComponentLink1URL: http://www.microchip.com/; ComponentLink2Description: Datasheet; ComponentLink2URL: http://ww1.microchip.com/downloads/en/DeviceDoc/21823c.pdf; ComponentLink3Description: Package Specification; ComponentLink3URL: http://www.microchip.com/stellent/groups/techpub_sg/documents/packagingspec/en012702.pdf
footprint MSOP-MS8_N (TSOP, 8-Leads, Body 3x3mm, Pitch 0.65mm, IPC Medium Density)
footprint MSOP-MS8_L (TSOP, 8-Leads, Body 3x3mm, Pitch 0.65mm, IPC High Density)
footprint MSOP-MS8_M (TSOP, 8-Leads, Body 3x3mm, Pitch 0.65mm, IPC Low Density)
pins: 1 SENSE (in), 2 VDD (power), 3 STAT1 (oc), 4 EN (in), 5 TIMER (in), 6 VSS (power), 7 VBAT (power), 8 DRV (out)

## MCP73843T-420I/MS
designator U?
Single-Cell Li-Ion/Li-Polymer Charge Management Controller, 4.2V, 8-Pin MSOP, Industrial Temperature, Tape and Reel; DatasheetVersion: revC, Sep-2004; PackageVersion: revBB, Aug-2009; PackageReference: MSOP-MS8; PackageDescription: 8-Lead Plastic Micro Small Outline Package (MS) [MSOP]; ComponentLink1Description: Manufacturer URL; ComponentLink1URL: http://www.microchip.com/; ComponentLink2Description: Datasheet; ComponentLink2URL: http://ww1.microchip.com/downloads/en/DeviceDoc/21823c.pdf; ComponentLink3Description: Package Specification; ComponentLink3URL: http://www.microchip.com/stellent/groups/techpub_sg/documents/packagingspec/en012702.pdf
footprint MSOP-MS8_N (TSOP, 8-Leads, Body 3x3mm, Pitch 0.65mm, IPC Medium Density)
footprint MSOP-MS8_L (TSOP, 8-Leads, Body 3x3mm, Pitch 0.65mm, IPC High Density)
footprint MSOP-MS8_M (TSOP, 8-Leads, Body 3x3mm, Pitch 0.65mm, IPC Low Density)
pins: 1 SENSE (in), 2 VDD (power), 3 STAT1 (oc), 4 EN (in), 5 TIMER (in), 6 VSS (power), 7 VBAT (power), 8 DRV (out)

## MCP73844-820I/MS
designator U?
Dual Series cell Li-Ion/Li-Polymer Charge Management Controller, 8.2V, 8-Pin MSOP, Industrial Temperature; DatasheetVersion: revC, Sep-2004; PackageVersion: revBB, Aug-2009; PackageReference: MSOP-MS8; PackageDescription: 8-Lead Plastic Micro Small Outline Package (MS) [MSOP]; ComponentLink1Description: Manufacturer URL; ComponentLink1URL: http://www.microchip.com/; ComponentLink2Description: Datasheet; ComponentLink2URL: http://ww1.microchip.com/downloads/en/DeviceDoc/21823c.pdf; ComponentLink3Description: Package Specification; ComponentLink3URL: http://www.microchip.com/stellent/groups/techpub_sg/documents/packagingspec/en012702.pdf
footprint MSOP-MS8_N (TSOP, 8-Leads, Body 3x3mm, Pitch 0.65mm, IPC Medium Density)
footprint MSOP-MS8_L (TSOP, 8-Leads, Body 3x3mm, Pitch 0.65mm, IPC High Density)
footprint MSOP-MS8_M (TSOP, 8-Leads, Body 3x3mm, Pitch 0.65mm, IPC Low Density)
pins: 1 SENSE (in), 2 VDD (power), 3 STAT1 (oc), 4 EN (in), 5 TIMER (in), 6 VSS (power), 7 VBAT (power), 8 DRV (out)

## MCP73844-840I/MS
designator U?
Dual Series cell Li-Ion/Li-Polymer Charge Management Controller, 8.4V, 8-Pin MSOP, Industrial Temperature; DatasheetVersion: revC, Sep-2004; PackageVersion: revBB, Aug-2009; PackageReference: MSOP-MS8; PackageDescription: 8-Lead Plastic Micro Small Outline Package (MS) [MSOP]; ComponentLink1Description: Manufacturer URL; ComponentLink1URL: http://www.microchip.com/; ComponentLink2Description: Datasheet; ComponentLink2URL: http://ww1.microchip.com/downloads/en/DeviceDoc/21823c.pdf; ComponentLink3Description: Package Specification; ComponentLink3URL: http://www.microchip.com/stellent/groups/techpub_sg/documents/packagingspec/en012702.pdf
footprint MSOP-MS8_N (TSOP, 8-Leads, Body 3x3mm, Pitch 0.65mm, IPC Medium Density)
footprint MSOP-MS8_L (TSOP, 8-Leads, Body 3x3mm, Pitch 0.65mm, IPC High Density)
footprint MSOP-MS8_M (TSOP, 8-Leads, Body 3x3mm, Pitch 0.65mm, IPC Low Density)
pins: 1 SENSE (in), 2 VDD (power), 3 STAT1 (oc), 4 EN (in), 5 TIMER (in), 6 VSS (power), 7 VBAT (power), 8 DRV (out)

## MCP73844T-820I/MS
designator U?
Dual Series cell Li-Ion/Li-Polymer Charge Management Controller, 8.2V, 8-Pin MSOP, Industrial Temperature, Tape and Reel; DatasheetVersion: revC, Sep-2004; PackageVersion: revBB, Aug-2009; PackageReference: MSOP-MS8; PackageDescription: 8-Lead Plastic Micro Small Outline Package (MS) [MSOP]; ComponentLink1Description: Manufacturer URL; ComponentLink1URL: http://www.microchip.com/; ComponentLink2Description: Datasheet; ComponentLink2URL: http://ww1.microchip.com/downloads/en/DeviceDoc/21823c.pdf; ComponentLink3Description: Package Specification; ComponentLink3URL: http://www.microchip.com/stellent/groups/techpub_sg/documents/packagingspec/en012702.pdf
footprint MSOP-MS8_N (TSOP, 8-Leads, Body 3x3mm, Pitch 0.65mm, IPC Medium Density)
footprint MSOP-MS8_L (TSOP, 8-Leads, Body 3x3mm, Pitch 0.65mm, IPC High Density)
footprint MSOP-MS8_M (TSOP, 8-Leads, Body 3x3mm, Pitch 0.65mm, IPC Low Density)
pins: 1 SENSE (in), 2 VDD (power), 3 STAT1 (oc), 4 EN (in), 5 TIMER (in), 6 VSS (power), 7 VBAT (power), 8 DRV (out)

## MCP73844T-840I/MS
designator U?
Dual Series cell Li-Ion/Li-Polymer Charge Management Controller, 8.4V, 8-Pin MSOP, Industrial Temperature, Tape and Reel; DatasheetVersion: revC, Sep-2004; PackageVersion: revBB, Aug-2009; PackageReference: MSOP-MS8; PackageDescription: 8-Lead Plastic Micro Small Outline Package (MS) [MSOP]; ComponentLink1Description: Manufacturer URL; ComponentLink1URL: http://www.microchip.com/; ComponentLink2Description: Datasheet; ComponentLink2URL: http://ww1.microchip.com/downloads/en/DeviceDoc/21823c.pdf; ComponentLink3Description: Package Specification; ComponentLink3URL: http://www.microchip.com/stellent/groups/techpub_sg/documents/packagingspec/en012702.pdf
footprint MSOP-MS8_N (TSOP, 8-Leads, Body 3x3mm, Pitch 0.65mm, IPC Medium Density)
footprint MSOP-MS8_L (TSOP, 8-Leads, Body 3x3mm, Pitch 0.65mm, IPC High Density)
footprint MSOP-MS8_M (TSOP, 8-Leads, Body 3x3mm, Pitch 0.65mm, IPC Low Density)
pins: 1 SENSE (in), 2 VDD (power), 3 STAT1 (oc), 4 EN (in), 5 TIMER (in), 6 VSS (power), 7 VBAT (power), 8 DRV (out)

## MCP73853-I/ML
designator U?
USB Compatible Li-Ion/Li-Polymer Charge Management Controller with Temperature Monitor, 16-Pin QFN, Industrial Temperature; DatasheetVersion: revA, Nov-2004; PackageVersion: revBB, Aug-2009; PackageReference: QFN-ML16; PackageDescription: 16-Lead Plastic Quad Flat, No Lead Package (ML) - 4x4x0.9 mm Body [QFN]; Code_JEDEC: MO-220; Code_IPC: QFN65P400X400-16V2; ComponentLink1Description: Manufacturer URL; ComponentLink1URL: http://www.microchip.com/; ComponentLink2Description: Datasheet; ComponentLink2URL: http://ww1.microchip.com/downloads/en/DeviceDoc/21915a.pdf; ComponentLink3Description: Package Specification; ComponentLink3URL: http://www.microchip.com/stellent/groups/techpub_sg/documents/packagingspec/en012702.pdf
footprint QFN-ML16_N (QFN, 16-Leads, Body 4x4mm, Pitch 0.65mm, Thermal Pad 2.8x2.8mm, IPC Medium Density)
footprint QFN-ML16_L (QFN, 16-Leads, Body 4x4mm, Pitch 0.65mm, Thermal Pad 2.8x2.8mm, IPC High Density)
footprint QFN-ML16_M (QFN, 16-Leads, Body 4x4mm, Pitch 0.65mm, Thermal Pad 2.8x2.8mm, IPC Low Density)
pins: 1 VSET (in), 2 VDD1 (power), 3 VDD2 (power), 4 VSS1 (power), 5 PROG (in), 6 THREF (power), 7 THERM (in), 8 TIMER (in), 9 VSS3 (power), 10 VBAT1 (power), 11 VBAT2 (power), 12 VBAT3 (power), 13 VSS2 (power), 14 EN (in), 15 STAT2 (oc), 16 STAT1 (oc), 17 EP (power)

## MCP73853T-I/ML
designator U?
USB Compatible Li-Ion/Li-Polymer Charge Management Controller with Temperature Monitor, 16-Pin QFN, Industrial Temperature, Tape and Reel; DatasheetVersion: revA, Nov-2004; PackageVersion: revBB, Aug-2009; PackageReference: QFN-ML16; PackageDescription: 16-Lead Plastic Quad Flat, No Lead Package (ML) - 4x4x0.9 mm Body [QFN]; Code_JEDEC: MO-220; Code_IPC: QFN65P400X400-16V2; ComponentLink1Description: Manufacturer URL; ComponentLink1URL: http://www.microchip.com/; ComponentLink2Description: Datasheet; ComponentLink2URL: http://ww1.microchip.com/downloads/en/DeviceDoc/21915a.pdf; ComponentLink3Description: Package Specification; ComponentLink3URL: http://www.microchip.com/stellent/groups/techpub_sg/documents/packagingspec/en012702.pdf
footprint QFN-ML16_N (QFN, 16-Leads, Body 4x4mm, Pitch 0.65mm, Thermal Pad 2.8x2.8mm, IPC Medium Density)
footprint QFN-ML16_L (QFN, 16-Leads, Body 4x4mm, Pitch 0.65mm, Thermal Pad 2.8x2.8mm, IPC High Density)
footprint QFN-ML16_M (QFN, 16-Leads, Body 4x4mm, Pitch 0.65mm, Thermal Pad 2.8x2.8mm, IPC Low Density)
pins: 1 VSET (in), 2 VDD1 (power), 3 VDD2 (power), 4 VSS1 (power), 5 PROG (in), 6 THREF (power), 7 THERM (in), 8 TIMER (in), 9 VSS3 (power), 10 VBAT1 (power), 11 VBAT2 (power), 12 VBAT3 (power), 13 VSS2 (power), 14 EN (in), 15 STAT2 (oc), 16 STAT1 (oc), 17 EP (power)

## MCP73855-I/MF
designator U?
USB Compatible Li-Ion/Li-Polymer Charge Management Controller, 10-Pin DFN, Industrial Temperature; DatasheetVersion: revA, Nov-2004; PackageVersion: revBB, Aug-2009; PackageReference: DFN-MF10; PackageDescription: 10-Lead Plastic Dual Flat, No Lead Package (MF) - 3x3x0.9mm Body [DFN]; ComponentLink1Description: Manufacturer URL; ComponentLink1URL: http://www.microchip.com/; ComponentLink2Description: Datasheet; ComponentLink2URL: http://ww1.microchip.com/downloads/en/DeviceDoc/21915a.pdf; ComponentLink3Description: Package Specification; ComponentLink3URL: http://www.microchip.com/stellent/groups/techpub_sg/documents/packagingspec/en012702.pdf
footprint DFN-MF10 (SON, 10-Leads, Body 3x3mm, Pitch 0.5mm, Microchip Recommended)
pins: 1 STAT1 (oc), 2 VSET (in), 3 VDD1 (power), 4 VSS1 (power), 5 PROG (in), 6 TIMER (in), 7 VSS2 (power), 8 VBAT1 (power), 9 VBAT2 (power), 10 EN (in), 11 EP (power)

## MCP73855T-I/MF
designator U?
USB Compatible Li-Ion/Li-Polymer Charge Management Controller, 10-Pin DFN, Industrial Temperature, Tape and Reel; DatasheetVersion: revA, Nov-2004; PackageVersion: revBB, Aug-2009; PackageReference: DFN-MF10; PackageDescription: 10-Lead Plastic Dual Flat, No Lead Package (MF) - 3x3x0.9mm Body [DFN]; ComponentLink1Description: Manufacturer URL; ComponentLink1URL: http://www.microchip.com/; ComponentLink2Description: Datasheet; ComponentLink2URL: http://ww1.microchip.com/downloads/en/DeviceDoc/21915a.pdf; ComponentLink3Description: Package Specification; ComponentLink3URL: http://www.microchip.com/stellent/groups/techpub_sg/documents/packagingspec/en012702.pdf
footprint DFN-MF10 (SON, 10-Leads, Body 3x3mm, Pitch 0.5mm, Microchip Recommended)
pins: 1 STAT1 (oc), 2 VSET (in), 3 VDD1 (power), 4 VSS1 (power), 5 PROG (in), 6 TIMER (in), 7 VSS2 (power), 8 VBAT1 (power), 9 VBAT2 (power), 10 EN (in), 11 EP (power)

## MCP73861-I/ML
designator U?
Single-Cell Li-Ion/Li-Polymer Charge Management Controller with Temperature Monitor, 4.1V, 16-Pin QFN, Industrial Temperature; DatasheetVersion: revD, Dec-2008; PackageVersion: revBB, Aug-2009; PackageReference: QFN-ML16; PackageDescription: 16-Lead Plastic Quad Flat, No Lead Package (ML) - 4x4x0.9 mm Body [QFN]; Code_JEDEC: MO-220; Code_IPC: QFN65P400X400-16V2; ComponentLink1Description: Manufacturer URL; ComponentLink1URL: http://www.microchip.com/; ComponentLink2Description: Datasheet; ComponentLink2URL: http://ww1.microchip.com/downloads/en/DeviceDoc/21893d.pdf; ComponentLink3Description: Package Specification; ComponentLink3URL: http://www.microchip.com/stellent/groups/techpub_sg/documents/packagingspec/en012702.pdf
footprint QFN-ML16_N (QFN, 16-Leads, Body 4x4mm, Pitch 0.65mm, Thermal Pad 2.8x2.8mm, IPC Medium Density)
footprint QFN-ML16_L (QFN, 16-Leads, Body 4x4mm, Pitch 0.65mm, Thermal Pad 2.8x2.8mm, IPC High Density)
footprint QFN-ML16_M (QFN, 16-Leads, Body 4x4mm, Pitch 0.65mm, Thermal Pad 2.8x2.8mm, IPC Low Density)
pins: 1 VSET (in), 2 VDD1 (power), 3 VDD2 (power), 4 VSS1 (power), 5 PROG (in), 6 THREF (power), 7 THERM (in), 8 TIMER (in), 9 VSS3 (power), 10 VBAT1 (power), 11 VBAT2 (power), 12 VBAT3 (power), 13 VSS2 (power), 14 EN (in), 15 STAT2 (oc), 16 STAT1 (oc), 17 EP (power)

## MCP73861-I/MLRB4
designator U?
Single-Cell Li-Ion/Li-Polymer Charge Management Controller with Temperature Monitor, 4.1V, 16-Pin QFN, Industrial Temperature; DatasheetVersion: revD, Dec-2008; PackageVersion: revBB, Aug-2009; PackageReference: QFN-ML16; PackageDescription: 16-Lead Plastic Quad Flat, No Lead Package (ML) - 4x4x0.9 mm Body [QFN]; Code_JEDEC: MO-220; Code_IPC: QFN65P400X400-16V2; ComponentLink1Description: Manufacturer URL; ComponentLink1URL: http://www.microchip.com/; ComponentLink2Description: Datasheet; ComponentLink2URL: http://ww1.microchip.com/downloads/en/DeviceDoc/21893d.pdf; ComponentLink3Description: Package Specification; ComponentLink3URL: http://www.microchip.com/stellent/groups/techpub_sg/documents/packagingspec/en012702.pdf
footprint QFN-ML16_N (QFN, 16-Leads, Body 4x4mm, Pitch 0.65mm, Thermal Pad 2.8x2.8mm, IPC Medium Density)
footprint QFN-ML16_L (QFN, 16-Leads, Body 4x4mm, Pitch 0.65mm, Thermal Pad 2.8x2.8mm, IPC High Density)
footprint QFN-ML16_M (QFN, 16-Leads, Body 4x4mm, Pitch 0.65mm, Thermal Pad 2.8x2.8mm, IPC Low Density)
pins: 1 VSET (in), 2 VDD1 (power), 3 VDD2 (power), 4 VSS1 (power), 5 PROG (in), 6 THREF (power), 7 THERM (in), 8 TIMER (in), 9 VSS3 (power), 10 VBAT1 (power), 11 VBAT2 (power), 12 VBAT3 (power), 13 VSS2 (power), 14 EN (in), 15 STAT2 (oc), 16 STAT1 (oc), 17 EP (power)

## MCP73861-I/SL
designator U?
Single-Cell Li-Ion/Li-Polymer Charge Management Controller with Temperature Monitor, 4.1V, 16-Pin SOIC 150mil, Industrial Temperature; DatasheetVersion: revD, Dec-2008; PackageVersion: revBB, Aug-2009; PackageReference: SOIC-SL16; PackageDescription: 16-Lead Plastic Small Outline (SL) - Narrow, 3.90mm Body [SOIC]; Code_JEDEC: MS-012-AC; Code_IPC: SOIC127P600-16; ComponentLink1Description: Manufacturer URL; ComponentLink1URL: http://www.microchip.com/; ComponentLink2Description: Datasheet; ComponentLink2URL: http://ww1.microchip.com/downloads/en/DeviceDoc/21893d.pdf; ComponentLink3Description: Package Specification; ComponentLink3URL: http://www.microchip.com/stellent/groups/techpub_sg/documents/packagingspec/en012702.pdf
footprint SOIC-SL16_N (SOIC, 16-Leads, Body 9.9x3.9mm, Pitch 1.27mm, IPC Medium Density)
footprint SOIC-SL16_L (SOIC, 16-Leads, Body 9.9x3.9mm, Pitch 1.27mm, IPC High Density)
footprint SOIC-SL16_M (SOIC, 16-Leads, Body 9.9x3.9mm, Pitch 1.27mm, IPC Low Density)
pins: 1 STAT2 (oc), 2 STAT1 (oc), 3 VSET (in), 4 VDD1 (power), 5 VDD2 (power), 6 VSS1 (power), 7 PROG (in), 8 THREF (power), 9 THERM (in), 10 TIMER (in), 11 VSS3 (power), 12 VBAT1 (power), 13 VBAT2 (power), 14 VBAT3 (power), 15 VSS2 (power), 16 EN (in)

## MCP73861-I/SLRB4
designator U?
Single-Cell Li-Ion/Li-Polymer Charge Management Controller with Temperature Monitor, 4.1V, 16-Pin SOIC 150mil, Industrial Temperature; DatasheetVersion: revD, Dec-2008; PackageVersion: revBB, Aug-2009; PackageReference: SOIC-SL16; PackageDescription: 16-Lead Plastic Small Outline (SL) - Narrow, 3.90mm Body [SOIC]; Code_JEDEC: MS-012-AC; Code_IPC: SOIC127P600-16; ComponentLink1Description: Manufacturer URL; ComponentLink1URL: http://www.microchip.com/; ComponentLink2Description: Datasheet; ComponentLink2URL: http://ww1.microchip.com/downloads/en/DeviceDoc/21893d.pdf; ComponentLink3Description: Package Specification; ComponentLink3URL: http://www.microchip.com/stellent/groups/techpub_sg/documents/packagingspec/en012702.pdf
footprint SOIC-SL16_N (SOIC, 16-Leads, Body 9.9x3.9mm, Pitch 1.27mm, IPC Medium Density)
footprint SOIC-SL16_L (SOIC, 16-Leads, Body 9.9x3.9mm, Pitch 1.27mm, IPC High Density)
footprint SOIC-SL16_M (SOIC, 16-Leads, Body 9.9x3.9mm, Pitch 1.27mm, IPC Low Density)
pins: 1 STAT2 (oc), 2 STAT1 (oc), 3 VSET (in), 4 VDD1 (power), 5 VDD2 (power), 6 VSS1 (power), 7 PROG (in), 8 THREF (power), 9 THERM (in), 10 TIMER (in), 11 VSS3 (power), 12 VBAT1 (power), 13 VBAT2 (power), 14 VBAT3 (power), 15 VSS2 (power), 16 EN (in)

## MCP73861T-I/ML
designator U?
Single-Cell Li-Ion/Li-Polymer Charge Management Controller with Temperature Monitor, 4.1V, 16-Pin QFN, Industrial Temperature, Tape and Reel; DatasheetVersion: revD, Dec-2008; PackageVersion: revBB, Aug-2009; PackageReference: QFN-ML16; PackageDescription: 16-Lead Plastic Quad Flat, No Lead Package (ML) - 4x4x0.9 mm Body [QFN]; Code_JEDEC: MO-220; Code_IPC: QFN65P400X400-16V2; ComponentLink1Description: Manufacturer URL; ComponentLink1URL: http://www.microchip.com/; ComponentLink2Description: Datasheet; ComponentLink2URL: http://ww1.microchip.com/downloads/en/DeviceDoc/21893d.pdf; ComponentLink3Description: Package Specification; ComponentLink3URL: http://www.microchip.com/stellent/groups/techpub_sg/documents/packagingspec/en012702.pdf
footprint QFN-ML16_N (QFN, 16-Leads, Body 4x4mm, Pitch 0.65mm, Thermal Pad 2.8x2.8mm, IPC Medium Density)
footprint QFN-ML16_L (QFN, 16-Leads, Body 4x4mm, Pitch 0.65mm, Thermal Pad 2.8x2.8mm, IPC High Density)
footprint QFN-ML16_M (QFN, 16-Leads, Body 4x4mm, Pitch 0.65mm, Thermal Pad 2.8x2.8mm, IPC Low Density)
pins: 1 VSET (in), 2 VDD1 (power), 3 VDD2 (power), 4 VSS1 (power), 5 PROG (in), 6 THREF (power), 7 THERM (in), 8 TIMER (in), 9 VSS3 (power), 10 VBAT1 (power), 11 VBAT2 (power), 12 VBAT3 (power), 13 VSS2 (power), 14 EN (in), 15 STAT2 (oc), 16 STAT1 (oc), 17 EP (power)

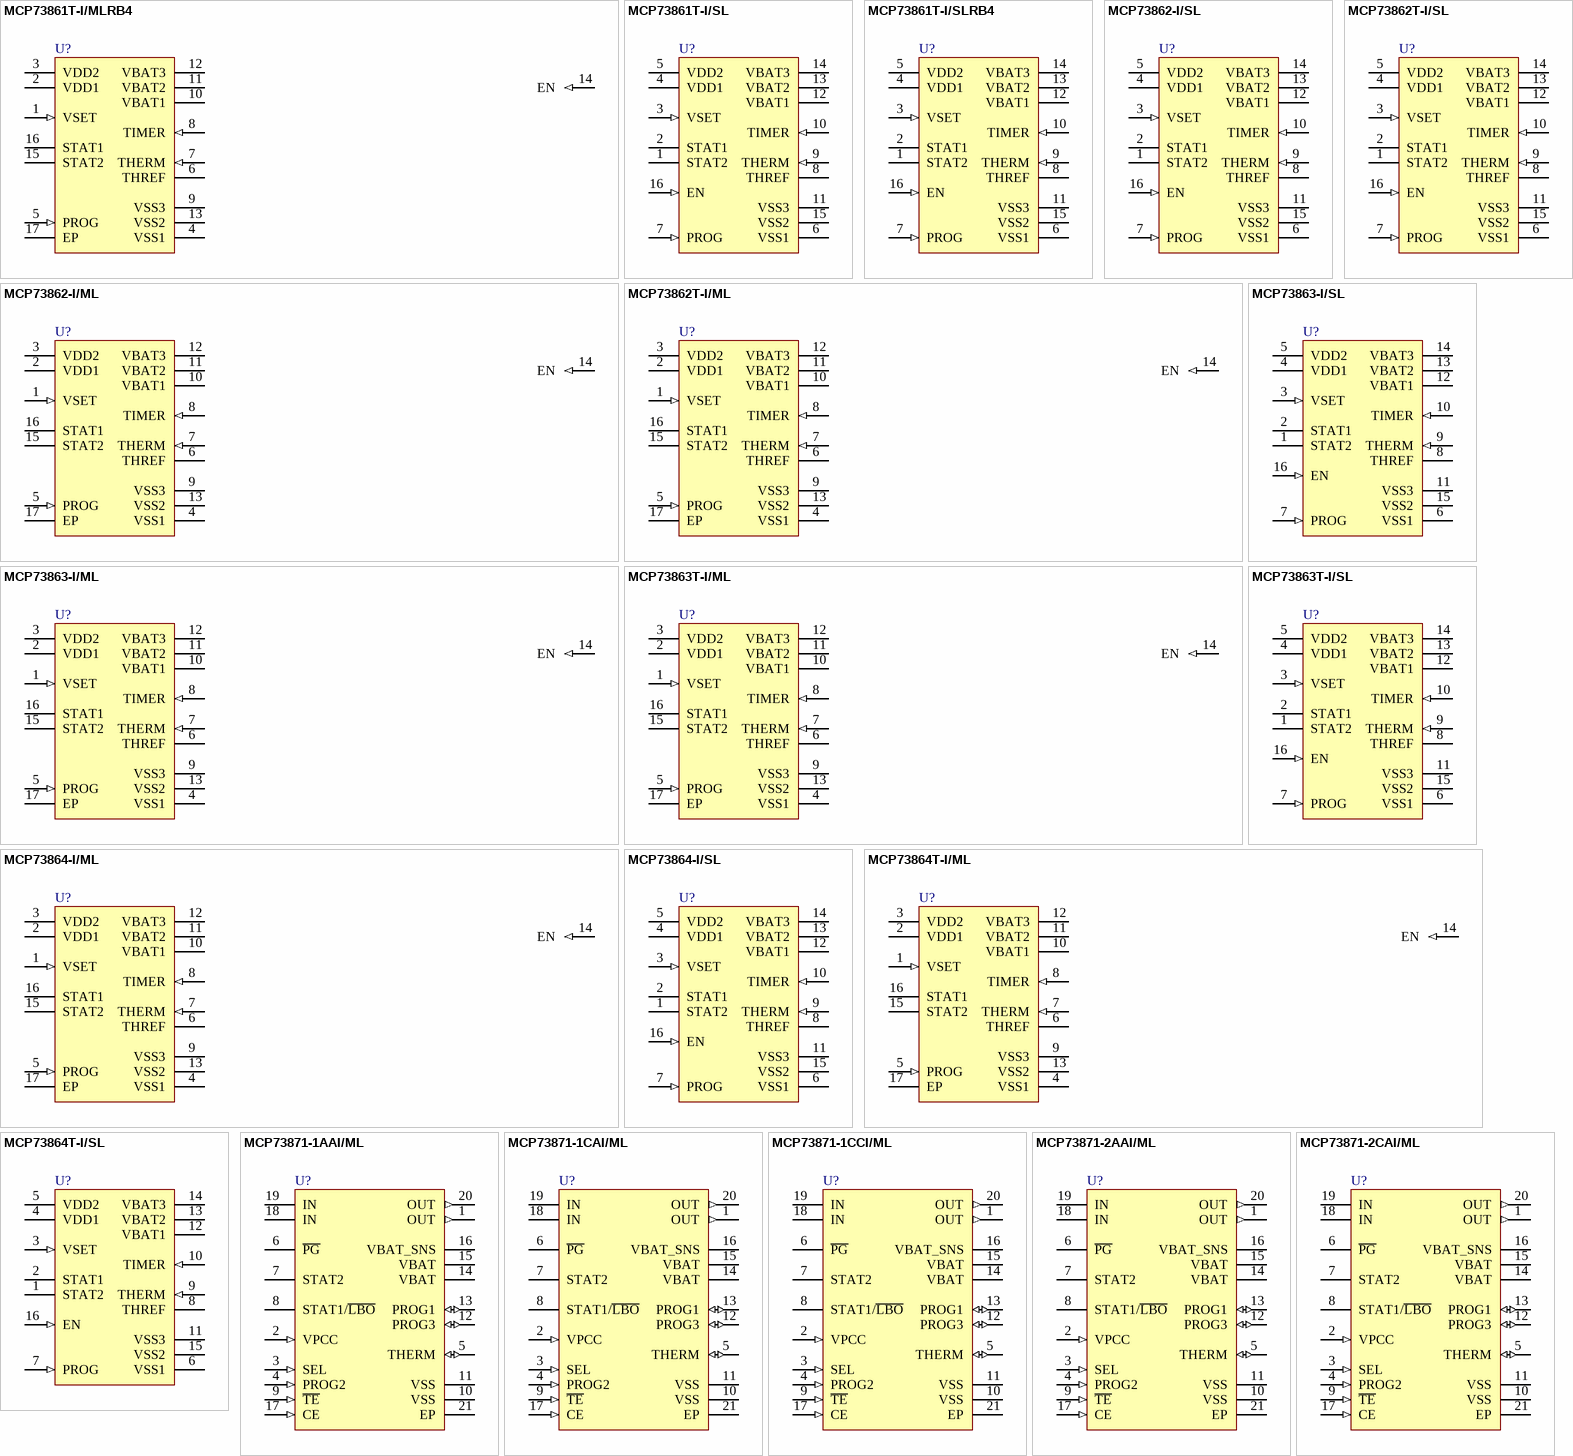
[diagram p5: symbols MCP73861T-I/MLRB4 to MCP73871-2CAI/ML]

## MCP73861T-I/MLRB4
designator U?
Single-Cell Li-Ion/Li-Polymer Charge Management Controller with Temperature Monitor, 4.1V, 16-Pin QFN, Industrial Temperature, Tape and Reel; DatasheetVersion: revD, Dec-2008; PackageVersion: revBB, Aug-2009; PackageReference: QFN-ML16; PackageDescription: 16-Lead Plastic Quad Flat, No Lead Package (ML) - 4x4x0.9 mm Body [QFN]; Code_JEDEC: MO-220; Code_IPC: QFN65P400X400-16V2; ComponentLink1Description: Manufacturer URL; ComponentLink1URL: http://www.microchip.com/; ComponentLink2Description: Datasheet; ComponentLink2URL: http://ww1.microchip.com/downloads/en/DeviceDoc/21893d.pdf; ComponentLink3Description: Package Specification; ComponentLink3URL: http://www.microchip.com/stellent/groups/techpub_sg/documents/packagingspec/en012702.pdf
footprint QFN-ML16_N (QFN, 16-Leads, Body 4x4mm, Pitch 0.65mm, Thermal Pad 2.8x2.8mm, IPC Medium Density)
footprint QFN-ML16_L (QFN, 16-Leads, Body 4x4mm, Pitch 0.65mm, Thermal Pad 2.8x2.8mm, IPC High Density)
footprint QFN-ML16_M (QFN, 16-Leads, Body 4x4mm, Pitch 0.65mm, Thermal Pad 2.8x2.8mm, IPC Low Density)
pins: 1 VSET (in), 2 VDD1 (power), 3 VDD2 (power), 4 VSS1 (power), 5 PROG (in), 6 THREF (power), 7 THERM (in), 8 TIMER (in), 9 VSS3 (power), 10 VBAT1 (power), 11 VBAT2 (power), 12 VBAT3 (power), 13 VSS2 (power), 14 EN (in), 15 STAT2 (oc), 16 STAT1 (oc), 17 EP (power)